# Altium footprint library TE_1-535542-0.PcbLib: 1 footprints
Each footprint in its own frame and in the unit in brackets; x right, y up, seen from the top. Pads: shape width x height; smd on the part's side, far side on the other; paste and mask are expansions set on the pad; w line width, h text height; cw(c..) or ccw(c..) is an arc to the next point about the centre after c.
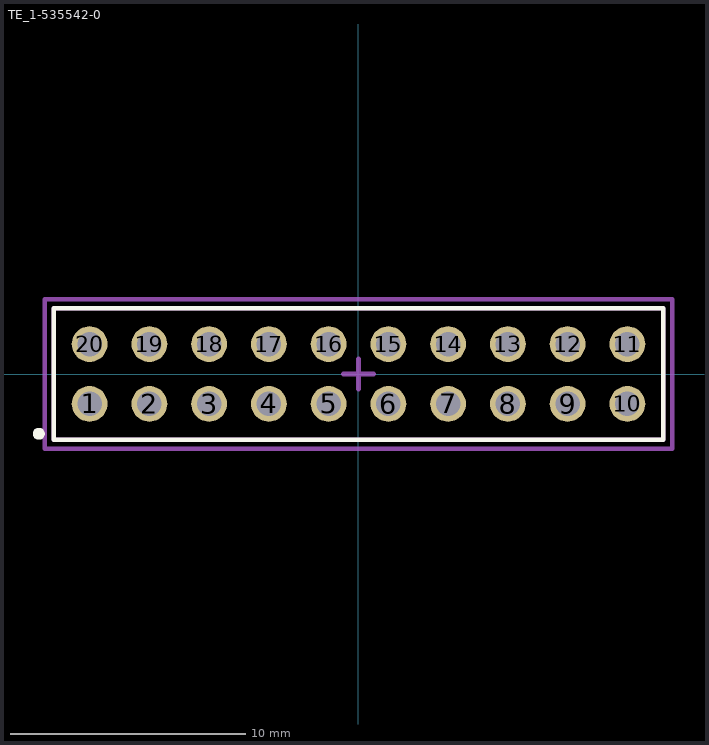
[diagram p0: the footprint, top view; thin cyan lines are the x and y axes]

## TE_1-535542-0 [mil]
pads (20):
  round 60 hole 41: 1(-450,-50) 2(-350,-50) 3(-250,-50) 4(-150,-50) 5(-50,-50) 6(50,-50) 7(150,-50) 8(250,-50) 9(350,-50) 10(450,-50) 11(450,50) 12(350,50) 13(250,50) 14(150,50) 15(50,50) 16(-50,50) 17(-150,50) 18(-250,50) 19(-350,50) 20(-450,50)
Top Overlay:
  circle w10: c-535,-100 r5
  lines w7.87: -510,-110 510,-110 510,110 -510,110 -510,-110
Mechanical 15:
  lines w7.87: -25,0 25,0 ; 0,-25 0,25 ; -525,-125 -525,125 525,125 525,-125 -525,-125
Mechanical 17:
  lines w7.87: -510,-110 -510,110 510,110 510,-110 -510,-110
  text ".Designator" at -485,-80 h60
Mechanical 19:
  lines w7.87: -510,-110 -510,110 510,110 510,-110 -510,-110
  text ".Comment" at -485,-80 h60
3D body: height 265, standoff -90, extent -499.99,-99 500.01,99